# Altium footprint library LM2676S-ADJ.PcbLib: 1 footprints
Each footprint in its own frame and in the unit in brackets; x right, y up, seen from the top. Pads: shape width x height; smd on the part's side, far side on the other; paste and mask are expansions set on the pad; w line width, h text height; cw(c..) or ccw(c..) is an arc to the next point about the centre after c.
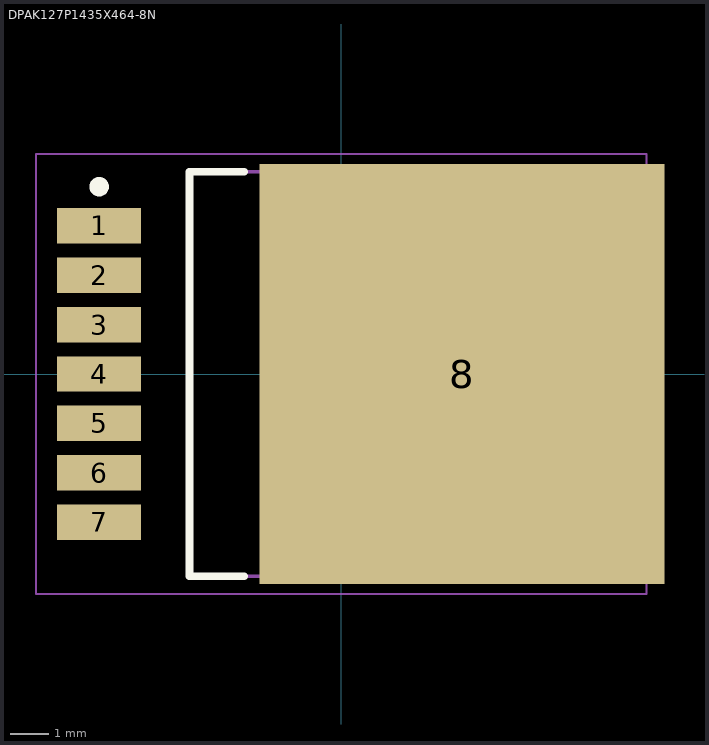
[diagram p0: the footprint, top view; thin cyan lines are the x and y axes]

## DPAK127P1435X464-8N [mm] "D2-PAK, 8-Pads, Body 7.55x8.57mm (max), IPC Medium Density"
height 4.64
pads (8):
  rect 2.16x0.91 smd: 1(-6.222,3.81) 2(-6.222,2.54) 3(-6.222,1.27) 4(-6.222,0) 5(-6.222,-1.27) 6(-6.222,-2.54) 7(-6.222,-3.81)
  rect 10.41x10.8 smd: 8(3.107,0)
Top Overlay:
  circle w0.25: c-6.222,4.815 r0.125
  lines w0.2: -2.498,-5.2 -3.9,-5.2 -3.9,5.2 -2.498,5.2
Mechanical 13:
  lines w0.1: -3.9,-5.2 4.99,-5.2 4.99,5.2 -3.9,5.2 -3.9,-5.2
Mechanical 15:
  lines w0.05: -7.85,-5.65 7.85,-5.65 7.85,5.65 -7.85,5.65 -7.85,-5.65
  lines w0.1: -0.5,0 0.5,0 ; 0,-0.5 0,0.5
3D body "DPAK127P1435X464-8N.step": height 4.64, standoff 0, extent -7.815,-5.2 6.535,5.2